# EAGLE library part BDC_MOTOR_ENCODER (library _motors)
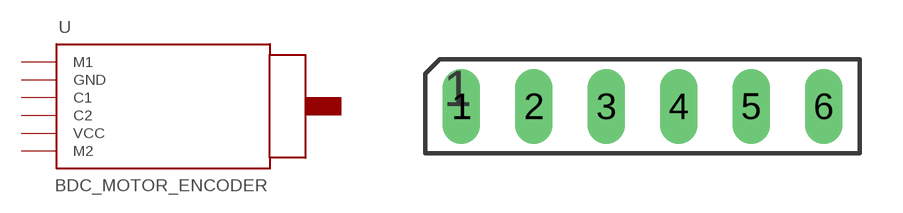
[diagram p0: symbol with the pads of SIP_X6; footprint SIP_X6]

Designator prefix -

## BDC_MOTOR_ENCODER  [SIP_X6]
1  M1  in
2  GND  pwr
3  C1
4  C2
5  VCC  pwr
6  M2  in

## Footprint SIP_X6 (pad centres in mm)
drill 0.813 long: 1 -6.35,0; 2 -3.81,0; 3 -1.27,0; 4 1.27,0; 5 3.81,0; 6 6.35,0